# Altium integrated library ON Semi Signal Management Signal Switches.IntLib: 212 symbols (part 6 of 6)
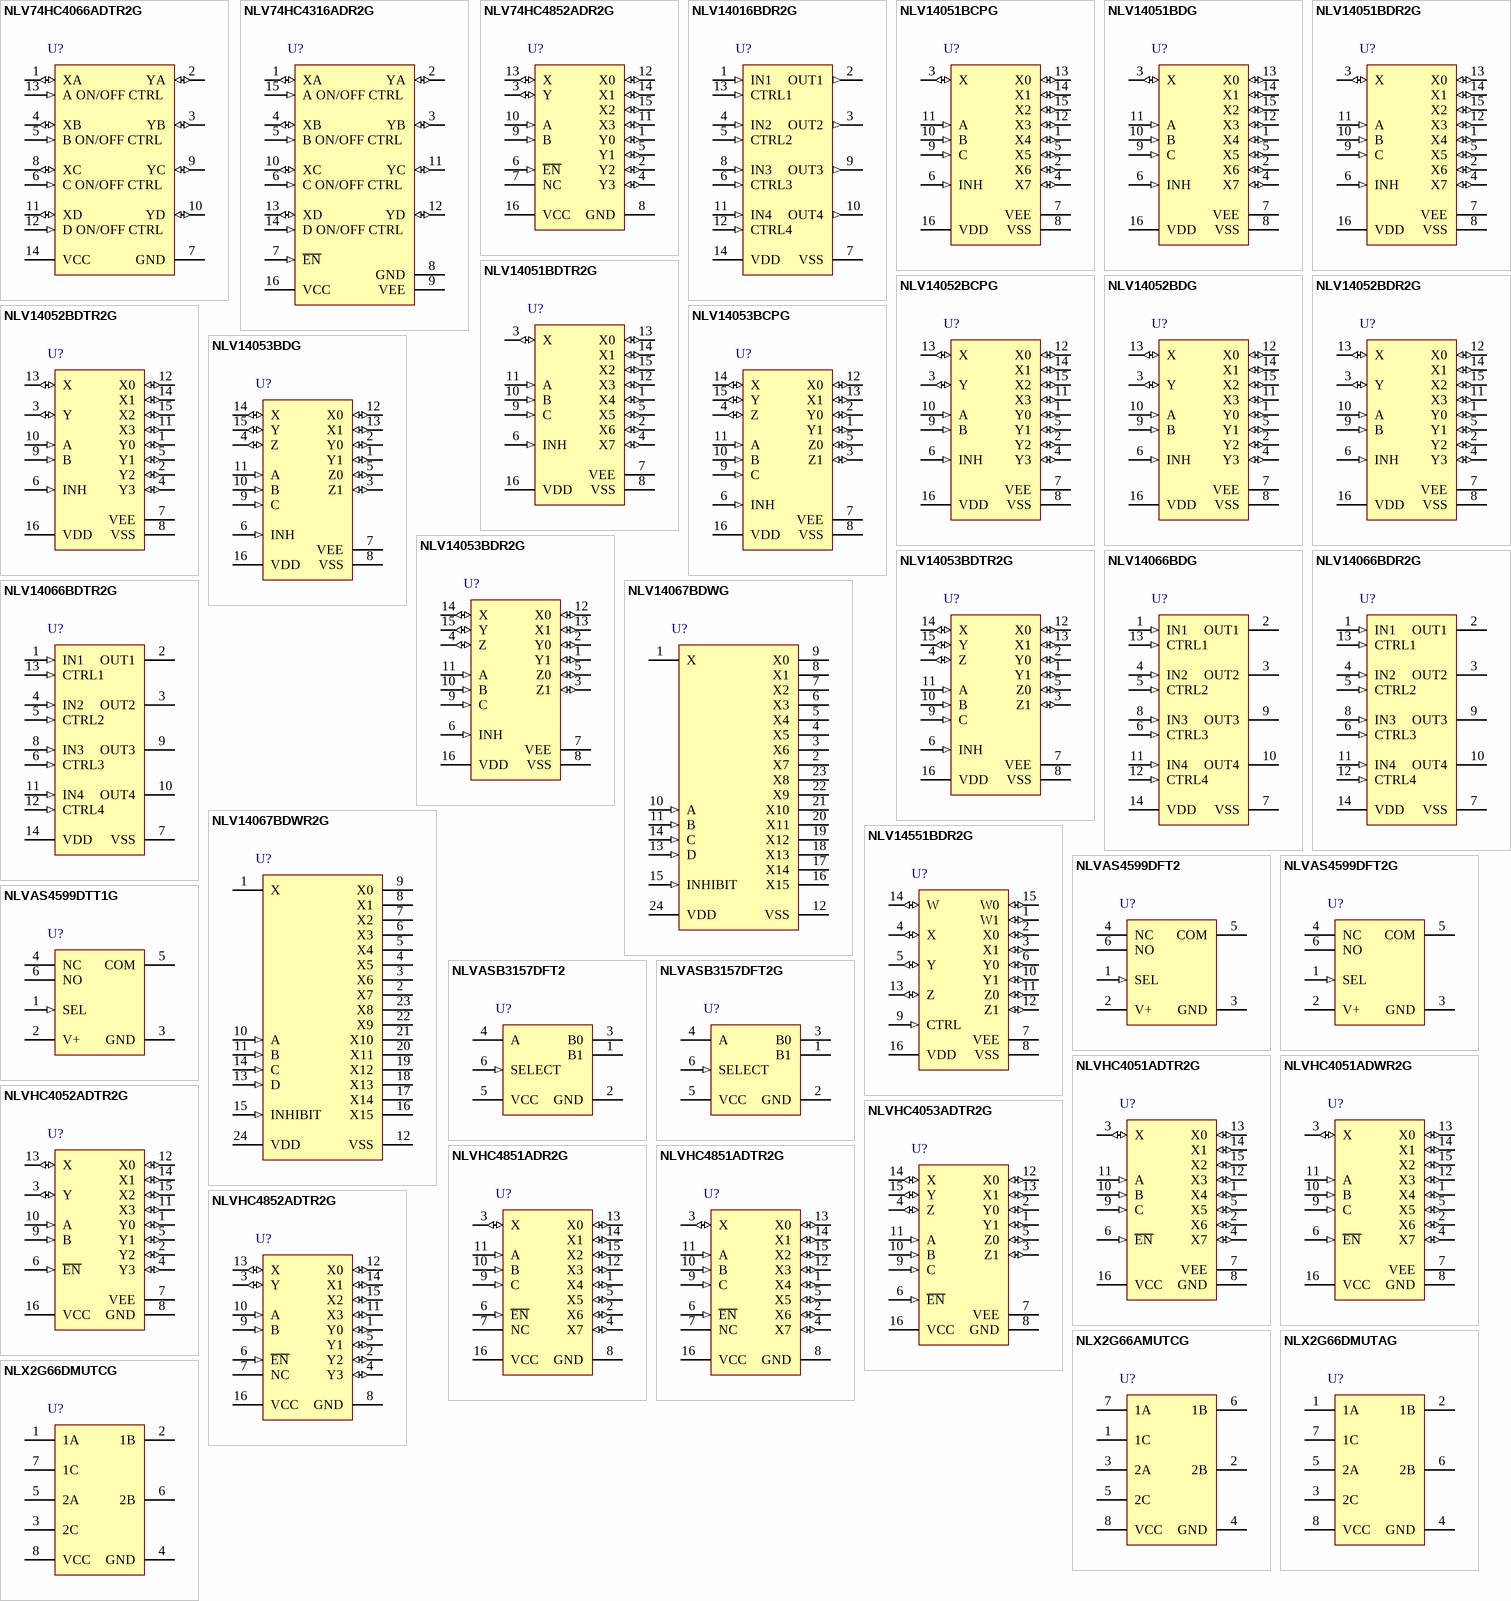
[diagram p11: symbols NLV74HC4066ADTR2G to NLX2G66DMUTCG]

## NLV14052BDR2G
designator U?
Analog Multiplexer / Demultiplexer, 3 to 18 V, -55 to 125 degC, 16-Pin SOIC, Pb-Free, Tape and Reel; Manufacturer: On Semiconductor; PartNumber: NLV14052BDR2G; Icc Max (uA): 600; VCC Max (V): 18; VCC Min (V): 3; DatasheetVersion: Rev. 13; PackageVersion: Rev. K, 12/2006; PackageReference: SOIC-16-751B-05; PackageDescription: 16-Pin Small Outline Integrated Circuit, Body 9.9 x 3.9 mm, Pitch 1.27 mm; Supplier 1: Digi-Key; Supplier Part Number 1: NLV14052BDR2G-ND; Supplier 2: Mouser; Supplier Part Number 2: 863-NLV14052BDR2G; Packing: Tape and Reel; RoHS: TRUE; Mounting Technology: Surface Mount; ComponentLink1Description: Manufacturer URL; ComponentLink1URL: http://www.onsemi.com/; ComponentLink2Description: Datasheet; ComponentLink2URL: http://www.onsemi.com/pub_link/Collateral/MC14051B-D.PDF; ComponentLink3Description: Package Specification; ComponentLink3URL: http://www.onsemi.com/pub_link/Collateral/751B-05.PDF
footprint ONSC-SOIC-16-751B-05_V (SOIC, 16-Leads, Body 10x4mm, Pitch 1.27mm)
pins: 1 Y0 (io), 2 Y2 (io), 3 Y (io), 4 Y3 (io), 5 Y1 (io), 6 INH (in), 7 VEE (power), 8 VSS (power), 9 B (in), 10 A (in), 11 X3 (io), 12 X0 (io), 13 X (io), 14 X1 (io), 15 X2 (io), 16 VDD (power)

## NLV14052BDTR2G
designator U?
Analog Multiplexer / Demultiplexer, 3 to 18 V, -55 to 125 degC, 16-Pin TSSOP, Pb-Free, Tape and Reel; Manufacturer: On Semiconductor; PartNumber: NLV14052BDTR2G; Icc Max (uA): 600; VCC Max (V): 18; VCC Min (V): 3; DatasheetVersion: Rev. 13; PackageVersion: Rev. B, 10/2006; PackageReference: TSSOP-16-948F-01; PackageDescription: 16-Pin Small Outline Package, Body 5 x 4.4 mm, Pitch 0.65 mm; Supplier 1: Digi-Key; Supplier Part Number 1: NLV14052BDTR2G-ND; Supplier 2: Mouser; Supplier Part Number 2: 863-NLV14052BDTR2G; Packing: Tape and Reel; RoHS: TRUE; Mounting Technology: Surface Mount; ComponentLink1Description: Manufacturer URL; ComponentLink1URL: http://www.onsemi.com/; ComponentLink2Description: Datasheet; ComponentLink2URL: http://www.onsemi.com/pub_link/Collateral/MC14051B-D.PDF; ComponentLink3Description: Package Specification; ComponentLink3URL: http://www.onsemi.com/pub_link/Collateral/948F-01.PDF
footprint ONSC-TSSOP-16-948F-01_V (SOP, 16-Leads, Body 5.1x4.5mm, Pitch 0.65mm)
pins: 1 Y0 (io), 2 Y2 (io), 3 Y (io), 4 Y3 (io), 5 Y1 (io), 6 INH (in), 7 VEE (power), 8 VSS (power), 9 B (in), 10 A (in), 11 X3 (io), 12 X0 (io), 13 X (io), 14 X1 (io), 15 X2 (io), 16 VDD (power)

## NLV14053BCPG
designator U?
Analog Multiplexer / Demultiplexer, 3 to 18 V, -55 to 125 degC, 16-Pin PDIP, Pb-Free, Tube; Manufacturer: On Semiconductor; PartNumber: NLV14053BCPG; Icc Max (uA): 600; VCC Max (V): 18; VCC Min (V): 3; DatasheetVersion: Rev. 13; PackageVersion: Rev. T, 05/2004; PackageReference: PDIP-16-648-08_T; PackageDescription: 16-Pin Plastic Dual-In Line Package, Body 19.175 x 6.6 mm, Pitch 2.54 mm; Supplier 1: Mouser; Supplier Part Number 1: N/A; Packing: Tube; RoHS: TRUE; Mounting Technology: Through Hole; ComponentLink1Description: Manufacturer URL; ComponentLink1URL: http://www.onsemi.com/; ComponentLink2Description: Datasheet; ComponentLink2URL: http://www.onsemi.com/pub_link/Collateral/MC14051B-D.PDF; ComponentLink3Description: Package Specification; ComponentLink3URL: http://www.onsemi.com/pub_link/Collateral/MC14028B-D.PDF
footprint ONSC-PDIP-16-648-08_T (DIP, 16-Leads, Body 19.55x6.85mm, Pitch 2.54mm)
pins: 1 Y1 (io), 2 Y0 (io), 3 Z1 (io), 4 Z (io), 5 Z0 (io), 6 INH (in), 7 VEE (power), 8 VSS (power), 9 C (in), 10 B (in), 11 A (in), 12 X0 (io), 13 X1 (io), 14 X (io), 15 Y (io), 16 VDD (power)

## NLV14053BDG
designator U?
Analog Multiplexer / Demultiplexer, 3 to 18 V, -55 to 125 degC, 16-Pin SOIC, Pb-Free, Tube; Manufacturer: On Semiconductor; PartNumber: NLV14053BDG; Icc Max (uA): 600; VCC Max (V): 18; VCC Min (V): 3; DatasheetVersion: Rev. 13; PackageVersion: Rev. K, 12/2006; PackageReference: SOIC-16-751B-05; PackageDescription: 16-Pin Small Outline Integrated Circuit, Body 9.9 x 3.9 mm, Pitch 1.27 mm; Supplier 1: Digi-Key; Supplier Part Number 1: NLV14053BDG-ND; Supplier 2: Mouser; Supplier Part Number 2: 863-NLV14053BDG; Packing: Tube; RoHS: TRUE; Mounting Technology: Surface Mount; ComponentLink1Description: Manufacturer URL; ComponentLink1URL: http://www.onsemi.com/; ComponentLink2Description: Datasheet; ComponentLink2URL: http://www.onsemi.com/pub_link/Collateral/MC14051B-D.PDF; ComponentLink3Description: Package Specification; ComponentLink3URL: http://www.onsemi.com/pub_link/Collateral/751B-05.PDF
footprint ONSC-SOIC-16-751B-05_V (SOIC, 16-Leads, Body 10x4mm, Pitch 1.27mm)
pins: 1 Y1 (io), 2 Y0 (io), 3 Z1 (io), 4 Z (io), 5 Z0 (io), 6 INH (in), 7 VEE (power), 8 VSS (power), 9 C (in), 10 B (in), 11 A (in), 12 X0 (io), 13 X1 (io), 14 X (io), 15 Y (io), 16 VDD (power)

## NLV14053BDR2G
designator U?
Analog Multiplexer / Demultiplexer, 3 to 18 V, -55 to 125 degC, 16-Pin SOIC, Pb-Free, Tape and Reel; Manufacturer: On Semiconductor; PartNumber: NLV14053BDR2G; Icc Max (uA): 600; VCC Max (V): 18; VCC Min (V): 3; DatasheetVersion: Rev. 13; PackageVersion: Rev. K, 12/2006; PackageReference: SOIC-16-751B-05; PackageDescription: 16-Pin Small Outline Integrated Circuit, Body 9.9 x 3.9 mm, Pitch 1.27 mm; Supplier 1: Digi-Key; Supplier Part Number 1: NLV14053BDR2G-ND; Supplier 2: Mouser; Supplier Part Number 2: 863-NLV14053BDR2G; Packing: Tape and Reel; RoHS: TRUE; Mounting Technology: Surface Mount; ComponentLink1Description: Manufacturer URL; ComponentLink1URL: http://www.onsemi.com/; ComponentLink2Description: Datasheet; ComponentLink2URL: http://www.onsemi.com/pub_link/Collateral/MC14051B-D.PDF; ComponentLink3Description: Package Specification; ComponentLink3URL: http://www.onsemi.com/pub_link/Collateral/751B-05.PDF
footprint ONSC-SOIC-16-751B-05_V (SOIC, 16-Leads, Body 10x4mm, Pitch 1.27mm)
pins: 1 Y1 (io), 2 Y0 (io), 3 Z1 (io), 4 Z (io), 5 Z0 (io), 6 INH (in), 7 VEE (power), 8 VSS (power), 9 C (in), 10 B (in), 11 A (in), 12 X0 (io), 13 X1 (io), 14 X (io), 15 Y (io), 16 VDD (power)

## NLV14053BDTR2G
designator U?
Analog Multiplexer / Demultiplexer, 3 to 18 V, -55 to 125 degC, 16-Pin TSSOP, Pb-Free, Tape and Reel; Manufacturer: On Semiconductor; PartNumber: NLV14053BDTR2G; Icc Max (uA): 600; VCC Max (V): 18; VCC Min (V): 3; DatasheetVersion: Rev. 13; PackageVersion: Rev. B, 10/2006; PackageReference: TSSOP-16-948F-01; PackageDescription: 16-Pin Small Outline Package, Body 5 x 4.4 mm, Pitch 0.65 mm; Supplier 1: Digi-Key; Supplier Part Number 1: NLV14053BDTR2G-ND; Supplier 2: Mouser; Supplier Part Number 2: 863-NLV14053BDTR2G; Packing: Tape and Reel; RoHS: TRUE; Mounting Technology: Surface Mount; ComponentLink1Description: Manufacturer URL; ComponentLink1URL: http://www.onsemi.com/; ComponentLink2Description: Datasheet; ComponentLink2URL: http://www.onsemi.com/pub_link/Collateral/MC14051B-D.PDF; ComponentLink3Description: Package Specification; ComponentLink3URL: http://www.onsemi.com/pub_link/Collateral/948F-01.PDF
footprint ONSC-TSSOP-16-948F-01_V (SOP, 16-Leads, Body 5.1x4.5mm, Pitch 0.65mm)
pins: 1 Y1 (io), 2 Y0 (io), 3 Z1 (io), 4 Z (io), 5 Z0 (io), 6 INH (in), 7 VEE (power), 8 VSS (power), 9 C (in), 10 B (in), 11 A (in), 12 X0 (io), 13 X1 (io), 14 X (io), 15 Y (io), 16 VDD (power)

## NLV14066BDG
designator U?
Quad Analog Switch / Quad Multiplexer, 3 to 18 V, -55 to 125 degC, 14-Pin SOIC, Pb-Free, Tube; Manufacturer: On Semiconductor; PartNumber: NLV14066BDG; Icc Max (uA): 30; VCC Max (V): 18; VCC Min (V): 3; DatasheetVersion: Rev. 9; PackageVersion: Rev. K, 05/2011; PackageReference: SOIC-14-751A-03; PackageDescription: 14-Pin Small Outline Integrated Circuit, Body 8.65 x 3.9 mm, Pitch 1.27 mm; Supplier 1: Digi-Key; Supplier Part Number 1: NLV14066BDG-ND; Supplier 2: Mouser; Supplier Part Number 2: 863-NLV14066BDG; Packing: Tube; RoHS: TRUE; Mounting Technology: Surface Mount; ComponentLink1Description: Manufacturer URL; ComponentLink1URL: http://www.onsemi.com/; ComponentLink2Description: Datasheet; ComponentLink2URL: http://www.onsemi.com/pub_link/Collateral/MC14066B-D.PDF; ComponentLink3Description: Package Specification; ComponentLink3URL: http://www.onsemi.com/pub_link/Collateral/751A-03.PDF
footprint ONSC-SOIC-14-751A-03_V (SOIC, 14-Leads, Body 8.75x4mm, Pitch 1.27mm)
pins: 1 IN1 (in), 2 OUT1 (hiz), 3 OUT2 (hiz), 4 IN2 (in), 5 CTRL2 (in), 6 CTRL3 (in), 7 VSS (power), 8 IN3 (in), 9 OUT3 (hiz), 10 OUT4 (hiz), 11 IN4 (in), 12 CTRL4 (in), 13 CTRL1 (in), 14 VDD (power)

## NLV14066BDR2G
designator U?
Quad Analog Switch / Quad Multiplexer, 3 to 18 V, -55 to 125 degC, 14-Pin SOIC, Pb-Free, Tape and Reel; Manufacturer: On Semiconductor; PartNumber: NLV14066BDR2G; Icc Max (uA): 30; VCC Max (V): 18; VCC Min (V): 3; DatasheetVersion: Rev. 9; PackageVersion: Rev. K, 05/2011; PackageReference: SOIC-14-751A-03; PackageDescription: 14-Pin Small Outline Integrated Circuit, Body 8.65 x 3.9 mm, Pitch 1.27 mm; Supplier 1: Digi-Key; Supplier Part Number 1: NLV14066BDR2G-ND; Supplier 2: Mouser; Supplier Part Number 2: 863-NLV14066BDR2G; Packing: Tape and Reel; RoHS: TRUE; Mounting Technology: Surface Mount; ComponentLink1Description: Manufacturer URL; ComponentLink1URL: http://www.onsemi.com/; ComponentLink2Description: Datasheet; ComponentLink2URL: http://www.onsemi.com/pub_link/Collateral/MC14066B-D.PDF; ComponentLink3Description: Package Specification; ComponentLink3URL: http://www.onsemi.com/pub_link/Collateral/751A-03.PDF
footprint ONSC-SOIC-14-751A-03_V (SOIC, 14-Leads, Body 8.75x4mm, Pitch 1.27mm)
pins: 1 IN1 (in), 2 OUT1 (hiz), 3 OUT2 (hiz), 4 IN2 (in), 5 CTRL2 (in), 6 CTRL3 (in), 7 VSS (power), 8 IN3 (in), 9 OUT3 (hiz), 10 OUT4 (hiz), 11 IN4 (in), 12 CTRL4 (in), 13 CTRL1 (in), 14 VDD (power)

## NLV14066BDTR2G
designator U?
Quad Analog Switch / Quad Multiplexer, 3 to 18 V, -55 to 125 degC, 14-Pin TSSOP, Pb-Free, Tape and Reel; Manufacturer: On Semiconductor; PartNumber: NLV14066BDTR2G; Icc Max (uA): 30; VCC Max (V): 18; VCC Min (V): 3; DatasheetVersion: Rev. 9; PackageVersion: Rev. B, 10/2006; PackageReference: TSSOP-14-948G-01; PackageDescription: 14-Pin Small Outline Package, Body 5 x 4.4 mm, Pitch 0.65 mm; Supplier 1: Digi-Key; Supplier Part Number 1: NLV14066BDTR2G-ND; Supplier 2: Mouser; Supplier Part Number 2: 863-NLV14066BDTR2G; Packing: Tape and Reel; RoHS: TRUE; Mounting Technology: Surface Mount; ComponentLink1Description: Manufacturer URL; ComponentLink1URL: http://www.onsemi.com/; ComponentLink2Description: Datasheet; ComponentLink2URL: http://www.onsemi.com/pub_link/Collateral/MC14066B-D.PDF; ComponentLink3Description: Package Specification; ComponentLink3URL: http://www.onsemi.com/pub_link/Collateral/948G-01.PDF
footprint ONSC-TSSOP-14-948G-01_V (SOP, 14-Leads, Body 5.1x4.5mm, Pitch 0.65mm)
pins: 1 IN1 (in), 2 OUT1 (hiz), 3 OUT2 (hiz), 4 IN2 (in), 5 CTRL2 (in), 6 CTRL3 (in), 7 VSS (power), 8 IN3 (in), 9 OUT3 (hiz), 10 OUT4 (hiz), 11 IN4 (in), 12 CTRL4 (in), 13 CTRL1 (in), 14 VDD (power)

## NLV14067BDWG
designator U?
Analog Multiplexer / Demultiplexer, 3 to 18 V, -55 to 125 degC, 24-Pin SOIC, Pb-Free, Tube; Manufacturer: On Semiconductor; PartNumber: NLV14067BDWG; Icc Max (uA): 600; VCC Max (V): 18; VCC Min (V): 3; DatasheetVersion: Rev. 8; PackageVersion: Rev. F, 07/2012; PackageReference: SOIC-24-751E-04; PackageDescription: 24-Pin Small Outline Integrated Circuit, Body 15.4 x 7.5 mm, Pitch 1.27 mm; Supplier 1: Mouser; Supplier Part Number 1: N/A; Packing: Tube; RoHS: TRUE; Mounting Technology: Surface Mount; ComponentLink1Description: Manufacturer URL; ComponentLink1URL: http://www.onsemi.com/; ComponentLink2Description: Datasheet; ComponentLink2URL: http://www.onsemi.com/pub_link/Collateral/MC14067B-D.PDF; ComponentLink3Description: Package Specification; ComponentLink3URL: http://www.onsemi.com/pub_link/Collateral/751E-04.PDF
footprint ONSC-SOIC-24-751E-04_V (SOIC, 24-Leads, Body 15.54x7.6mm, Pitch 1.27mm)
pins: 1 X, 2 X7, 3 X6, 4 X5, 5 X4, 6 X3, 7 X2, 8 X1, 9 X0, 10 A (in), 11 B (in), 12 VSS (power), 13 D (in), 14 C (in), 15 INHIBIT (in), 16 X15, 17 X14, 18 X13, 19 X12, 20 X11, 21 X10, 22 X9, 23 X8, 24 VDD (power)

## NLV14067BDWR2G
designator U?
Analog Multiplexer / Demultiplexer, 3 to 18 V, -55 to 125 degC, 24-Pin SOIC, Pb-Free, Tape and Reel; Manufacturer: On Semiconductor; PartNumber: NLV14067BDWR2G; Icc Max (uA): 600; VCC Max (V): 18; VCC Min (V): 3; DatasheetVersion: Rev. 8; PackageVersion: Rev. F, 07/2012; PackageReference: SOIC-24-751E-04; PackageDescription: 24-Pin Small Outline Integrated Circuit, Body 15.4 x 7.5 mm, Pitch 1.27 mm; Supplier 1: Mouser; Supplier Part Number 1: N/A; Packing: Tape and Reel; RoHS: TRUE; Mounting Technology: Surface Mount; ComponentLink1Description: Manufacturer URL; ComponentLink1URL: http://www.onsemi.com/; ComponentLink2Description: Datasheet; ComponentLink2URL: http://www.onsemi.com/pub_link/Collateral/MC14067B-D.PDF; ComponentLink3Description: Package Specification; ComponentLink3URL: http://www.onsemi.com/pub_link/Collateral/751E-04.PDF
footprint ONSC-SOIC-24-751E-04_V (SOIC, 24-Leads, Body 15.54x7.6mm, Pitch 1.27mm)
pins: 1 X, 2 X7, 3 X6, 4 X5, 5 X4, 6 X3, 7 X2, 8 X1, 9 X0, 10 A (in), 11 B (in), 12 VSS (power), 13 D (in), 14 C (in), 15 INHIBIT (in), 16 X15, 17 X14, 18 X13, 19 X12, 20 X11, 21 X10, 22 X9, 23 X8, 24 VDD (power)

## NLV14551BDR2G
designator U?
Quad 2-Channel Analog Multiplexer / Demultiplexer, 3 to 18 V, -55 to 125 degC, 16-Pin SOIC, Pb-Free, Tape and Reel; Manufacturer: On Semiconductor; PartNumber: NLV14551BDR2G; Icc Max (uA): 600; VCC Max (V): 18; VCC Min (V): 3; DatasheetVersion: Rev. 9; PackageVersion: Rev. K, 12/2006; PackageReference: SOIC-16-751B-05; PackageDescription: 16-Pin Small Outline Integrated Circuit, Body 9.9 x 3.9 mm, Pitch 1.27 mm; Supplier 1: Digi-Key; Supplier Part Number 1: NLV14551BDR2G-ND; Supplier 2: Mouser; Supplier Part Number 2: 863-NLV14551BDR2G; Packing: Tape and Reel; RoHS: TRUE; Mounting Technology: Surface Mount; ComponentLink1Description: Manufacturer URL; ComponentLink1URL: http://www.onsemi.com/; ComponentLink2Description: Datasheet; ComponentLink2URL: http://www.onsemi.com/pub_link/Collateral/MC14551B-D.PDF; ComponentLink3Description: Package Specification; ComponentLink3URL: http://www.onsemi.com/pub_link/Collateral/751B-05.PDF
footprint ONSC-SOIC-16-751B-05_V (SOIC, 16-Leads, Body 10x4mm, Pitch 1.27mm)
pins: 1 W1 (io), 2 X0 (io), 3 X1 (io), 4 X (io), 5 Y (io), 6 Y0 (io), 7 VEE (power), 8 VSS (power), 9 CTRL (in), 10 Y1 (io), 11 Z0 (io), 12 Z1 (io), 13 Z (io), 14 W (io), 15 W0 (io), 16 VDD (power)

## NLVAS4599DFT2
designator U?
Low Voltage Single Supply SPDT Analog Switch, 2 to 5.5 V, -55 to 125 degC, 6-Pin SC70, Tape and Reel; Manufacturer: On Semiconductor; PartNumber: NLVAS4599DFT2; Icc Max (uA): 2; VCC Max (V): 5.5; DatasheetVersion: Rev. 11; PackageVersion: Rev. W, 01/2006; PackageReference: SC70-6-419B-02_W; PackageDescription: 6-Pin Small Outline Transistor, Body 2 x 1.25 mm, Pitch 0.65 mm; Supplier 1: Digi-Key; Supplier Part Number 1: NLVAS4599DFT2-ND; Packing: Tape and Reel; RoHS: FALSE; VCC Min (V): 2; Mounting Technology: Surface Mount; ComponentLink1Description: Manufacturer URL; ComponentLink1URL: http://www.onsemi.com/; ComponentLink2Description: Datasheet; ComponentLink2URL: http://www.onsemi.com/pub_link/Collateral/NLAS4599-D.PDF; ComponentLink3Description: Package Specification; ComponentLink3URL: http://www.onsemi.com/pub_link/Collateral/SMF05C-D.PDF
footprint ONSC-SC70-6-419B-02_W_V (SOT23, 6-Leads, Body 2.2x1.35mm, Pitch 0.65mm)
pins: 1 SEL (in), 2 V+ (power), 3 GND (power), 4 NC, 5 COM, 6 NO

## NLVAS4599DFT2G
designator U?
Low Voltage Single Supply SPDT Analog Switch, 2 to 5.5 V, -55 to 125 degC, 6-Pin SC70, Pb-Free, Tape and Reel; Manufacturer: On Semiconductor; PartNumber: NLVAS4599DFT2G; Icc Max (uA): 2; VCC Max (V): 5.5; DatasheetVersion: Rev. 11; PackageVersion: Rev. W, 01/2006; PackageReference: SC70-6-419B-02_W; PackageDescription: 6-Pin Small Outline Transistor, Body 2 x 1.25 mm, Pitch 0.65 mm; Supplier 1: Digi-Key; Supplier Part Number 1: NLVAS4599DFT2GOSTR-ND; Supplier 2: Digi-Key; Supplier Part Number 2: NLVAS4599DFT2GOSCT-ND; Supplier 3: Mouser; Supplier Part Number 3: 863-NLVAS4599DFT2G; Packing: Tape and Reel; RoHS: TRUE; VCC Min (V): 2; Mounting Technology: Surface Mount; ComponentLink1Description: Manufacturer URL; ComponentLink1URL: http://www.onsemi.com/; ComponentLink2Description: Datasheet; ComponentLink2URL: http://www.onsemi.com/pub_link/Collateral/NLAS4599-D.PDF; ComponentLink3Description: Package Specification; ComponentLink3URL: http://www.onsemi.com/pub_link/Collateral/SMF05C-D.PDF
footprint ONSC-SC70-6-419B-02_W_V (SOT23, 6-Leads, Body 2.2x1.35mm, Pitch 0.65mm)
pins: 1 SEL (in), 2 V+ (power), 3 GND (power), 4 NC, 5 COM, 6 NO

## NLVAS4599DTT1G
designator U?
Low Voltage Single Supply SPDT Analog Switch, 2 to 5.5 V, -55 to 125 degC, 6-Pin TSOP, Pb-Free, Tape and Reel; Manufacturer: On Semiconductor; PartNumber: NLVAS4599DTT1G; Icc Max (uA): 2; VCC Max (V): 5.5; DatasheetVersion: Rev. 11; PackageVersion: Rev. T, 02/2008; PackageReference: TSOP-6-318G-02_T; PackageDescription: 6-Pin Small Outline Package, Body 1.5 x 3 mm, Pitch 0.95 mm; Supplier 1: Digi-Key; Supplier Part Number 1: NLVAS4599DTT1GOSTR-ND; Supplier 2: Digi-Key; Supplier Part Number 2: NLVAS4599DTT1GOSCT-ND; Supplier 3: Mouser; Supplier Part Number 3: 863-NLVAS4599DTT1G; Packing: Tape and Reel; RoHS: TRUE; VCC Min (V): 2; Mounting Technology: Surface Mount; ComponentLink1Description: Manufacturer URL; ComponentLink1URL: http://www.onsemi.com/; ComponentLink2Description: Datasheet; ComponentLink2URL: http://www.onsemi.com/pub_link/Collateral/NLAS4599-D.PDF; ComponentLink3Description: Package Specification; ComponentLink3URL: http://www.onsemi.com/pub_link/Collateral/NSS20300MR6T1G-D.PDF
footprint ONSC-TSOP-6-318G-02_T_V (SOP, 6-Leads, Body 3x1.5mm, Pitch 0.95mm)
pins: 1 SEL (in), 2 V+ (power), 3 GND (power), 4 NC, 5 COM, 6 NO

## NLVASB3157DFT2
designator U?
SPDT, 3 Ohm RON Switch, 1.65 to 5.5 V, -55 to 125 degC, 6-Pin SC-88, Tape and Reel; Manufacturer: On Semiconductor; PartNumber: NLVASB3157DFT2; Icc Max (uA): 10; VCC Max (V): 5.5; VCC Min (V): 1.65; DatasheetVersion: Rev. 13; PackageVersion: Rev. Y, 12/2012; PackageReference: SC-88-6-419B-02; PackageDescription: 6-Pin Small Outline Transistor, Body 2 x 1.25 mm, Pitch 0.65 mm; Supplier 1: Mouser; Supplier Part Number 1: 863-NLVASB3157DFT2; Packing: Tape and Reel; RoHS: FALSE; Mounting Technology: Surface Mount; ComponentLink1Description: Manufacturer URL; ComponentLink1URL: http://www.onsemi.com/; ComponentLink2Description: Datasheet; ComponentLink2URL: http://www.onsemi.cn/pub_link/Collateral/NLASB3157-D.PDF; ComponentLink3Description: Package Specification; ComponentLink3URL: http://www.onsemi.com/pub_link/Collateral/419B-02.PDF
footprint ONSC-SC-88-6-419B-02_V (SOT23, 6-Leads, Body 2.2x1.35mm, Pitch 0.65mm)
pins: 1 B1, 2 GND (power), 3 B0, 4 A, 5 VCC (power), 6 SELECT (in)

## NLVASB3157DFT2G
designator U?
SPDT, 3 Ohm RON Switch, 1.65 to 5.5 V, -55 to 125 degC, 6-Pin SC-88, Pb-Free, Tape and Reel; Manufacturer: On Semiconductor; PartNumber: NLVASB3157DFT2G; Icc Max (uA): 10; VCC Max (V): 5.5; VCC Min (V): 1.65; DatasheetVersion: Rev. 13; PackageVersion: Rev. Y, 12/2012; PackageReference: SC-88-6-419B-02; PackageDescription: 6-Pin Small Outline Transistor, Body 2 x 1.25 mm, Pitch 0.65 mm; Supplier 1: Newark; Supplier Part Number 1: 60W1765; Supplier 2: Mouser; Supplier Part Number 2: 863-NLVASB3157DFT2G; Packing: Tape and Reel; RoHS: TRUE; Mounting Technology: Surface Mount; ComponentLink1Description: Manufacturer URL; ComponentLink1URL: http://www.onsemi.com/; ComponentLink2Description: Datasheet; ComponentLink2URL: http://www.onsemi.cn/pub_link/Collateral/NLASB3157-D.PDF; ComponentLink3Description: Package Specification; ComponentLink3URL: http://www.onsemi.com/pub_link/Collateral/419B-02.PDF
footprint ONSC-SC-88-6-419B-02_V (SOT23, 6-Leads, Body 2.2x1.35mm, Pitch 0.65mm)
pins: 1 B1, 2 GND (power), 3 B0, 4 A, 5 VCC (power), 6 SELECT (in)

## NLVHC4051ADTR2G
designator U?
Analog Multiplexer / Demultiplexer, High-Performance Silicon-Gate CMOS, 2 to 12 V, -55 to 125 degC, 16-Pin TSSOP, Pb-Free, Tape and Reel; Manufacturer: On Semiconductor; PartNumber: NLVHC4051ADTR2G; Icc Max (uA): 80; VCC Max (V): 12; VCC Min (V): 2; DatasheetVersion: Rev. 6; PackageVersion: Rev. B, 10/2006; PackageReference: TSSOP-16-948F-01; PackageDescription: 16-Pin Small Outline Package, Body 5 x 4.4 mm, Pitch 0.65 mm; Supplier 1: Digi-Key; Supplier Part Number 1: NLVHC4051ADTR2G-ND; Supplier 2: Mouser; Supplier Part Number 2: 863-NLVHC4051ADTR2G; Packing: Tape and Reel; RoHS: TRUE; Mounting Technology: Surface Mount; ComponentLink1Description: Manufacturer URL; ComponentLink1URL: http://www.onsemi.com/; ComponentLink2Description: Datasheet; ComponentLink2URL: http://www.onsemi.com/pub_link/Collateral/MC74HC4051A-D.PDF; ComponentLink3Description: Package Specification; ComponentLink3URL: http://www.onsemi.com/pub_link/Collateral/948F-01.PDF
footprint ONSC-TSSOP-16-948F-01_V (SOP, 16-Leads, Body 5.1x4.5mm, Pitch 0.65mm)
pins: 1 X4 (io), 2 X6 (io), 3 X (io), 4 X7 (io), 5 X5 (io), 6 ~{EN} (in), 7 VEE (power), 8 GND (power), 9 C (in), 10 B (in), 11 A (in), 12 X3 (io), 13 X0 (io), 14 X1 (io), 15 X2 (io), 16 VCC (power)

## NLVHC4051ADWR2G
designator U?
Analog Multiplexer / Demultiplexer, High-Performance Silicon-Gate CMOS, 2 to 12 V, -55 to 125 degC, 16-Pin SOIC, Pb-Free, Tape and Reel; Manufacturer: On Semiconductor; PartNumber: NLVHC4051ADWR2G; Icc Max (uA): 80; VCC Max (V): 12; VCC Min (V): 2; DatasheetVersion: Rev. 6; PackageVersion: Rev. D, 02/2013; PackageReference: SOIC-16-751G-03; PackageDescription: 16-Pin Small Outline Integrated Circuit, Body 10.3 x 7.5 mm, Pitch 1.27 mm; Supplier 1: Mouser; Supplier Part Number 1: N/A; Packing: Tape and Reel; RoHS: TRUE; Mounting Technology: Surface Mount; ComponentLink1Description: Manufacturer URL; ComponentLink1URL: http://www.onsemi.com/; ComponentLink2Description: Datasheet; ComponentLink2URL: http://www.onsemi.com/pub_link/Collateral/MC74HC4051A-D.PDF; ComponentLink3Description: Package Specification; ComponentLink3URL: http://www.onsemi.com/pub_link/Collateral/751G-03.PDF
footprint ONSC-SOIC-16-751G-03_V (SOIC, 16-Leads, Body 10.45x7.6mm, Pitch 1.27mm)
pins: 1 X4 (io), 2 X6 (io), 3 X (io), 4 X7 (io), 5 X5 (io), 6 ~{EN} (in), 7 VEE (power), 8 GND (power), 9 C (in), 10 B (in), 11 A (in), 12 X3 (io), 13 X0 (io), 14 X1 (io), 15 X2 (io), 16 VCC (power)

## NLVHC4052ADTR2G
designator U?
Analog Multiplexer / Demultiplexer, High-Performance Silicon-Gate CMOS, 2 to 12 V, -55 to 125 degC, 16-Pin TSSOP, Pb-Free, Tape and Reel; Manufacturer: On Semiconductor; PartNumber: NLVHC4052ADTR2G; Icc Max (uA): 80; VCC Max (V): 12; VCC Min (V): 2; DatasheetVersion: Rev. 6; PackageVersion: Rev. B, 10/2006; PackageReference: TSSOP-16-948F-01; PackageDescription: 16-Pin Small Outline Package, Body 5 x 4.4 mm, Pitch 0.65 mm; Supplier 1: Digi-Key; Supplier Part Number 1: NLVHC4052ADTR2G-ND; Supplier 2: Mouser; Supplier Part Number 2: 863-NLVHC4052ADTR2G; Packing: Tape and Reel; RoHS: TRUE; Mounting Technology: Surface Mount; ComponentLink1Description: Manufacturer URL; ComponentLink1URL: http://www.onsemi.com/; ComponentLink2Description: Datasheet; ComponentLink2URL: http://www.onsemi.com/pub_link/Collateral/MC74HC4051A-D.PDF; ComponentLink3Description: Package Specification; ComponentLink3URL: http://www.onsemi.com/pub_link/Collateral/948F-01.PDF
footprint ONSC-TSSOP-16-948F-01_V (SOP, 16-Leads, Body 5.1x4.5mm, Pitch 0.65mm)
pins: 1 Y0 (io), 2 Y2 (io), 3 Y (io), 4 Y3 (io), 5 Y1 (io), 6 ~{EN} (in), 7 VEE (power), 8 GND (power), 9 B (in), 10 A (in), 11 X3 (io), 12 X0 (io), 13 X (io), 14 X1 (io), 15 X2 (io), 16 VCC (power)

## NLVHC4053ADTR2G
designator U?
Analog Multiplexer / Demultiplexer, High-Performance Silicon-Gate CMOS, 2 to 12 V, -55 to 125 degC, 16-Pin TSSOP, Pb-Free, Tape and Reel; Manufacturer: On Semiconductor; PartNumber: NLVHC4053ADTR2G; Icc Max (uA): 80; VCC Max (V): 12; VCC Min (V): 2; DatasheetVersion: Rev. 6; PackageVersion: Rev. B, 10/2006; PackageReference: TSSOP-16-948F-01; PackageDescription: 16-Pin Small Outline Package, Body 5 x 4.4 mm, Pitch 0.65 mm; Supplier 1: Digi-Key; Supplier Part Number 1: NLVHC4053ADTR2G-ND; Supplier 2: Mouser; Supplier Part Number 2: 863-NLVHC4053ADTR2G; Packing: Tape and Reel; RoHS: TRUE; Mounting Technology: Surface Mount; ComponentLink1Description: Manufacturer URL; ComponentLink1URL: http://www.onsemi.com/; ComponentLink2Description: Datasheet; ComponentLink2URL: http://www.onsemi.com/pub_link/Collateral/MC74HC4051A-D.PDF; ComponentLink3Description: Package Specification; ComponentLink3URL: http://www.onsemi.com/pub_link/Collateral/948F-01.PDF
footprint ONSC-TSSOP-16-948F-01_V (SOP, 16-Leads, Body 5.1x4.5mm, Pitch 0.65mm)
pins: 1 Y1 (io), 2 Y0 (io), 3 Z1 (io), 4 Z (io), 5 Z0 (io), 6 ~{EN} (in), 7 VEE (power), 8 GND (power), 9 C (in), 10 B (in), 11 A (in), 12 X0 (io), 13 X1 (io), 14 X (io), 15 Y (io), 16 VCC (power)

## NLVHC4851ADR2G
designator U?
Analog Multiplexer / Demultiplexer with Injection Current Effect Control, Automotive Customized, 2 to 6 V, -55 to 125 degC, 16-Pin SOIC, Pb-Free, Tape and Reel; Manufacturer: On Semiconductor; PartNumber: NLVHC4851ADR2G; Icc Max (uA): 40; VCC Max (V): 6; VCC Min (V): 2; DatasheetVersion: Rev. 14; PackageVersion: Rev. K, 12/2006; PackageReference: SOIC-16-751B-05; PackageDescription: 16-Pin Small Outline Integrated Circuit, Body 9.9 x 3.9 mm, Pitch 1.27 mm; Supplier 1: Mouser; Supplier Part Number 1: 863-NLVHC4851ADR2G; Packing: Tape and Reel; RoHS: TRUE; Mounting Technology: Surface Mount; ComponentLink1Description: Manufacturer URL; ComponentLink1URL: http://www.onsemi.com/; ComponentLink2Description: Datasheet; ComponentLink2URL: http://www.onsemi.com/pub_link/Collateral/MC74HC4851A-D.PDF; ComponentLink3Description: Package Specification; ComponentLink3URL: http://www.onsemi.com/pub_link/Collateral/751B-05.PDF
footprint ONSC-SOIC-16-751B-05_V (SOIC, 16-Leads, Body 10x4mm, Pitch 1.27mm)
pins: 1 X4 (io), 2 X6 (io), 3 X (io), 4 X7 (io), 5 X5 (io), 6 ~{EN} (in), 7 NC, 8 GND (power), 9 C (in), 10 B (in), 11 A (in), 12 X3 (io), 13 X0 (io), 14 X1 (io), 15 X2 (io), 16 VCC (power)

## NLVHC4851ADTR2G
designator U?
Analog Multiplexer / Demultiplexer with Injection Current Effect Control, Automotive Customized, 2 to 6 V, -55 to 125 degC, 16-Pin TSSOP, Pb-Free, Tape and Reel; Manufacturer: On Semiconductor; PartNumber: NLVHC4851ADTR2G; Icc Max (uA): 40; VCC Max (V): 6; VCC Min (V): 2; DatasheetVersion: Rev. 14; PackageVersion: Rev. B, 10/2006; PackageReference: TSSOP-16-948F-01; PackageDescription: 16-Pin Small Outline Package, Body 5 x 4.4 mm, Pitch 0.65 mm; Supplier 1: Digi-Key; Supplier Part Number 1: NLVHC4851ADTR2G-ND; Supplier 2: Mouser; Supplier Part Number 2: 863-NLVHC4851ADTR2G; Packing: Tape and Reel; RoHS: TRUE; Mounting Technology: Surface Mount; ComponentLink1Description: Manufacturer URL; ComponentLink1URL: http://www.onsemi.com/; ComponentLink2Description: Datasheet; ComponentLink2URL: http://www.onsemi.com/pub_link/Collateral/MC74HC4851A-D.PDF; ComponentLink3Description: Package Specification; ComponentLink3URL: http://www.onsemi.com/pub_link/Collateral/948F-01.PDF
footprint ONSC-TSSOP-16-948F-01_V (SOP, 16-Leads, Body 5.1x4.5mm, Pitch 0.65mm)
pins: 1 X4 (io), 2 X6 (io), 3 X (io), 4 X7 (io), 5 X5 (io), 6 ~{EN} (in), 7 NC, 8 GND (power), 9 C (in), 10 B (in), 11 A (in), 12 X3 (io), 13 X0 (io), 14 X1 (io), 15 X2 (io), 16 VCC (power)

## NLVHC4852ADTR2G
designator U?
Analog Multiplexer / Demultiplexer with Injection Current Effect Control, Automotive Customized, 2 to 6 V, -55 to 125 degC, 16-Pin TSSOP, Pb-Free, Tape and Reel; Manufacturer: On Semiconductor; PartNumber: NLVHC4852ADTR2G; Icc Max (uA): 40; VCC Max (V): 6; VCC Min (V): 2; DatasheetVersion: Rev. 14; PackageVersion: Rev. B, 10/2006; PackageReference: TSSOP-16-948F-01; PackageDescription: 16-Pin Small Outline Package, Body 5 x 4.4 mm, Pitch 0.65 mm; Supplier 1: Digi-Key; Supplier Part Number 1: NLVHC4852ADTR2G-ND; Supplier 2: Mouser; Supplier Part Number 2: 863-NLVHC4852ADTR2G; Packing: Tape and Reel; RoHS: TRUE; Mounting Technology: Surface Mount; ComponentLink1Description: Manufacturer URL; ComponentLink1URL: http://www.onsemi.com/; ComponentLink2Description: Datasheet; ComponentLink2URL: http://www.onsemi.com/pub_link/Collateral/MC74HC4851A-D.PDF; ComponentLink3Description: Package Specification; ComponentLink3URL: http://www.onsemi.com/pub_link/Collateral/948F-01.PDF
footprint ONSC-TSSOP-16-948F-01_V (SOP, 16-Leads, Body 5.1x4.5mm, Pitch 0.65mm)
pins: 1 Y0 (io), 2 Y2 (io), 3 Y (io), 4 Y3 (io), 5 Y1 (io), 6 ~{EN} (in), 7 NC, 8 GND (power), 9 B (in), 10 A (in), 11 X3 (io), 12 X0 (io), 13 X (io), 14 X1 (io), 15 X2 (io), 16 VCC (power)

## NLX2G66AMUTCG
designator U?
Dual Bilateral Analog Switch / Digital Multiplexer, 1.65 to 5.5 V, -55 to 125 degC, 8-Pin UQFN, Pb-Free, Tape and Reel; Manufacturer: On Semiconductor; PartNumber: NLX2G66AMUTCG; Icc Max (uA): 10; VCC Max (V): 5.5; VCC Min (V): 1.65; DatasheetVersion: Rev. 1; PackageVersion: Rev. O, 11/2008; PackageReference: UQFN-8-523AN-01; PackageDescription: 8-Pin Quad Flat No-Lead, Body 1.6 x 1.6 mm, Pitch 0.5 mm; Packing: Tape and Reel; RoHS: TRUE; Mounting Technology: Surface Mount; ComponentLink1Description: Manufacturer URL; ComponentLink1URL: http://www.onsemi.com/; ComponentLink2Description: Datasheet; ComponentLink2URL: http://www.onsemi.com/pub_link/Collateral/NLX2G66-D.PDF; ComponentLink3Description: Package Specification; ComponentLink3URL: http://www.onsemi.com/pub_link/Collateral/523AN.PDF
footprint ONSC-UQFN-8-523AN-01_V (QFN, 8-Leads, Body 1.6x1.6mm, Pitch 0.5mm)
pins: 1 1C, 2 2B, 3 2A, 4 GND (power), 5 2C, 6 1B, 7 1A, 8 VCC (power)

## NLX2G66DMUTAG
designator U?
Dual Bilateral Analog Switch / Digital Multiplexer, 1.65 to 5.5 V, -55 to 125 degC, 8-Pin UDFN, Pb-Free, Tape and Reel; Manufacturer: On Semiconductor; PartNumber: NLX2G66DMUTAG; Icc Max (uA): 10; VCC Max (V): 5.5; VCC Min (V): 1.65; DatasheetVersion: Rev. 1; PackageVersion: Rev. O, 05/2011; PackageReference: UDFN-8-517CA-01; PackageDescription: 8-Pin Small Outline No-Lead, Body 1.95 x 1 mm, Pitch 0.5 mm; Supplier 1: Newark; Supplier Part Number 1: 72W2289; Supplier 2: Mouser; Supplier Part Number 2: 863-NLX2G66DMUTAG; Packing: Tape and Reel; RoHS: TRUE; Mounting Technology: Surface Mount; ComponentLink1Description: Manufacturer URL; ComponentLink1URL: http://www.onsemi.com/; ComponentLink2Description: Datasheet; ComponentLink2URL: http://www.onsemi.com/pub_link/Collateral/NLX2G66-D.PDF; ComponentLink3Description: Package Specification; ComponentLink3URL: http://www.onsemi.com/pub_link/Collateral/517CA.PDF
footprint ONSC-UDFN-8-517CA-01_V (SON, 8-Leads, Body 1.95x1mm, Pitch 0.5mm)
pins: 1 1A, 2 1B, 3 2C, 4 GND (power), 5 2A, 6 2B, 7 1C, 8 VCC (power)

## NLX2G66DMUTCG
designator U?
Dual Bilateral Analog Switch / Digital Multiplexer, 1.65 to 5.5 V, -55 to 125 degC, 8-Pin UDFN, Pb-Free, Tape and Reel; Manufacturer: On Semiconductor; PartNumber: NLX2G66DMUTCG; Icc Max (uA): 10; VCC Max (V): 5.5; VCC Min (V): 1.65; DatasheetVersion: Rev. 1; PackageVersion: Rev. O, 05/2011; PackageReference: UDFN-8-517CA-01; PackageDescription: 8-Pin Small Outline No-Lead, Body 1.95 x 1 mm, Pitch 0.5 mm; Supplier 1: Mouser; Supplier Part Number 1: 863-NLX2G66DMUTCG; Packing: Tape and Reel; RoHS: TRUE; Mounting Technology: Surface Mount; ComponentLink1Description: Manufacturer URL; ComponentLink1URL: http://www.onsemi.com/; ComponentLink2Description: Datasheet; ComponentLink2URL: http://www.onsemi.com/pub_link/Collateral/NLX2G66-D.PDF; ComponentLink3Description: Package Specification; ComponentLink3URL: http://www.onsemi.com/pub_link/Collateral/517CA.PDF
footprint ONSC-UDFN-8-517CA-01_V (SON, 8-Leads, Body 1.95x1mm, Pitch 0.5mm)
pins: 1 1A, 2 1B, 3 2C, 4 GND (power), 5 2A, 6 2B, 7 1C, 8 VCC (power)

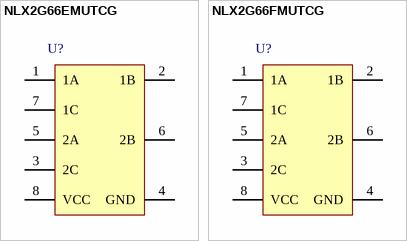
[diagram p6: symbols NLX2G66EMUTCG to NLX2G66FMUTCG]

## NLX2G66EMUTCG
designator U?
Dual Bilateral Analog Switch / Digital Multiplexer, 1.65 to 5.5 V, -55 to 125 degC, 8-Pin UDFN, Pb-Free, Tape and Reel; Manufacturer: On Semiconductor; PartNumber: NLX2G66EMUTCG; Icc Max (uA): 10; VCC Max (V): 5.5; VCC Min (V): 1.65; DatasheetVersion: Rev. 1; PackageVersion: Rev. O, 05/2011; PackageReference: UDFN-8-517BY; PackageDescription: 8-Pin Small Outline No-Lead, Body 1.6 x 1 mm, Pitch 0.4 mm; Packing: Tape and Reel; RoHS: TRUE; Mounting Technology: Surface Mount; ComponentLink1Description: Manufacturer URL; ComponentLink1URL: http://www.onsemi.com/; ComponentLink2Description: Datasheet; ComponentLink2URL: http://www.onsemi.com/pub_link/Collateral/NLX2G66-D.PDF; ComponentLink3Description: Package Specification; ComponentLink3URL: http://www.onsemi.com/pub_link/Collateral/NLX2G66-D.PDF
footprint ONSC-UDFN-8-517BY_V (SON, 8-Leads, Body 1.6x1mm, Pitch 0.4mm)
pins: 1 1A, 2 1B, 3 2C, 4 GND (power), 5 2A, 6 2B, 7 1C, 8 VCC (power)

## NLX2G66FMUTCG
designator U?
Dual Bilateral Analog Switch / Digital Multiplexer, 1.65 to 5.5 V, -55 to 125 degC, 8-Pin UDFN, Pb-Free, Tape and Reel; Manufacturer: On Semiconductor; PartNumber: NLX2G66FMUTCG; Icc Max (uA): 10; VCC Max (V): 5.5; VCC Min (V): 1.65; DatasheetVersion: Rev. 1; PackageVersion: Rev. O, 05/2011; PackageReference: UDFN-8-517BZ-01; PackageDescription: 8-Pin Small Outline No-Lead, Body 1.45 x 1 mm, Pitch 0.35 mm; Packing: Tape and Reel; RoHS: TRUE; Mounting Technology: Surface Mount; ComponentLink1Description: Manufacturer URL; ComponentLink1URL: http://www.onsemi.com/; ComponentLink2Description: Datasheet; ComponentLink2URL: http://www.onsemi.com/pub_link/Collateral/NLX2G66-D.PDF; ComponentLink3Description: Package Specification; ComponentLink3URL: http://www.onsemi.com/pub_link/Collateral/517BZ.PDF
footprint ONSC-UDFN-8-517BZ-01_V (SON, 8-Leads, Body 1.45x1mm, Pitch 0.35mm)
pins: 1 1A, 2 1B, 3 2C, 4 GND (power), 5 2A, 6 2B, 7 1C, 8 VCC (power)